# Altium footprint library Mezeq_Passives.PcbLib: 20 footprints (part 1 of 2)
Each footprint in its own frame and in the unit in brackets; x right, y up, seen from the top. Pads: shape width x height; smd on the part's side, far side on the other; paste and mask are expansions set on the pad; w line width, h text height; cw(c..) or ccw(c..) is an arc to the next point about the centre after c.
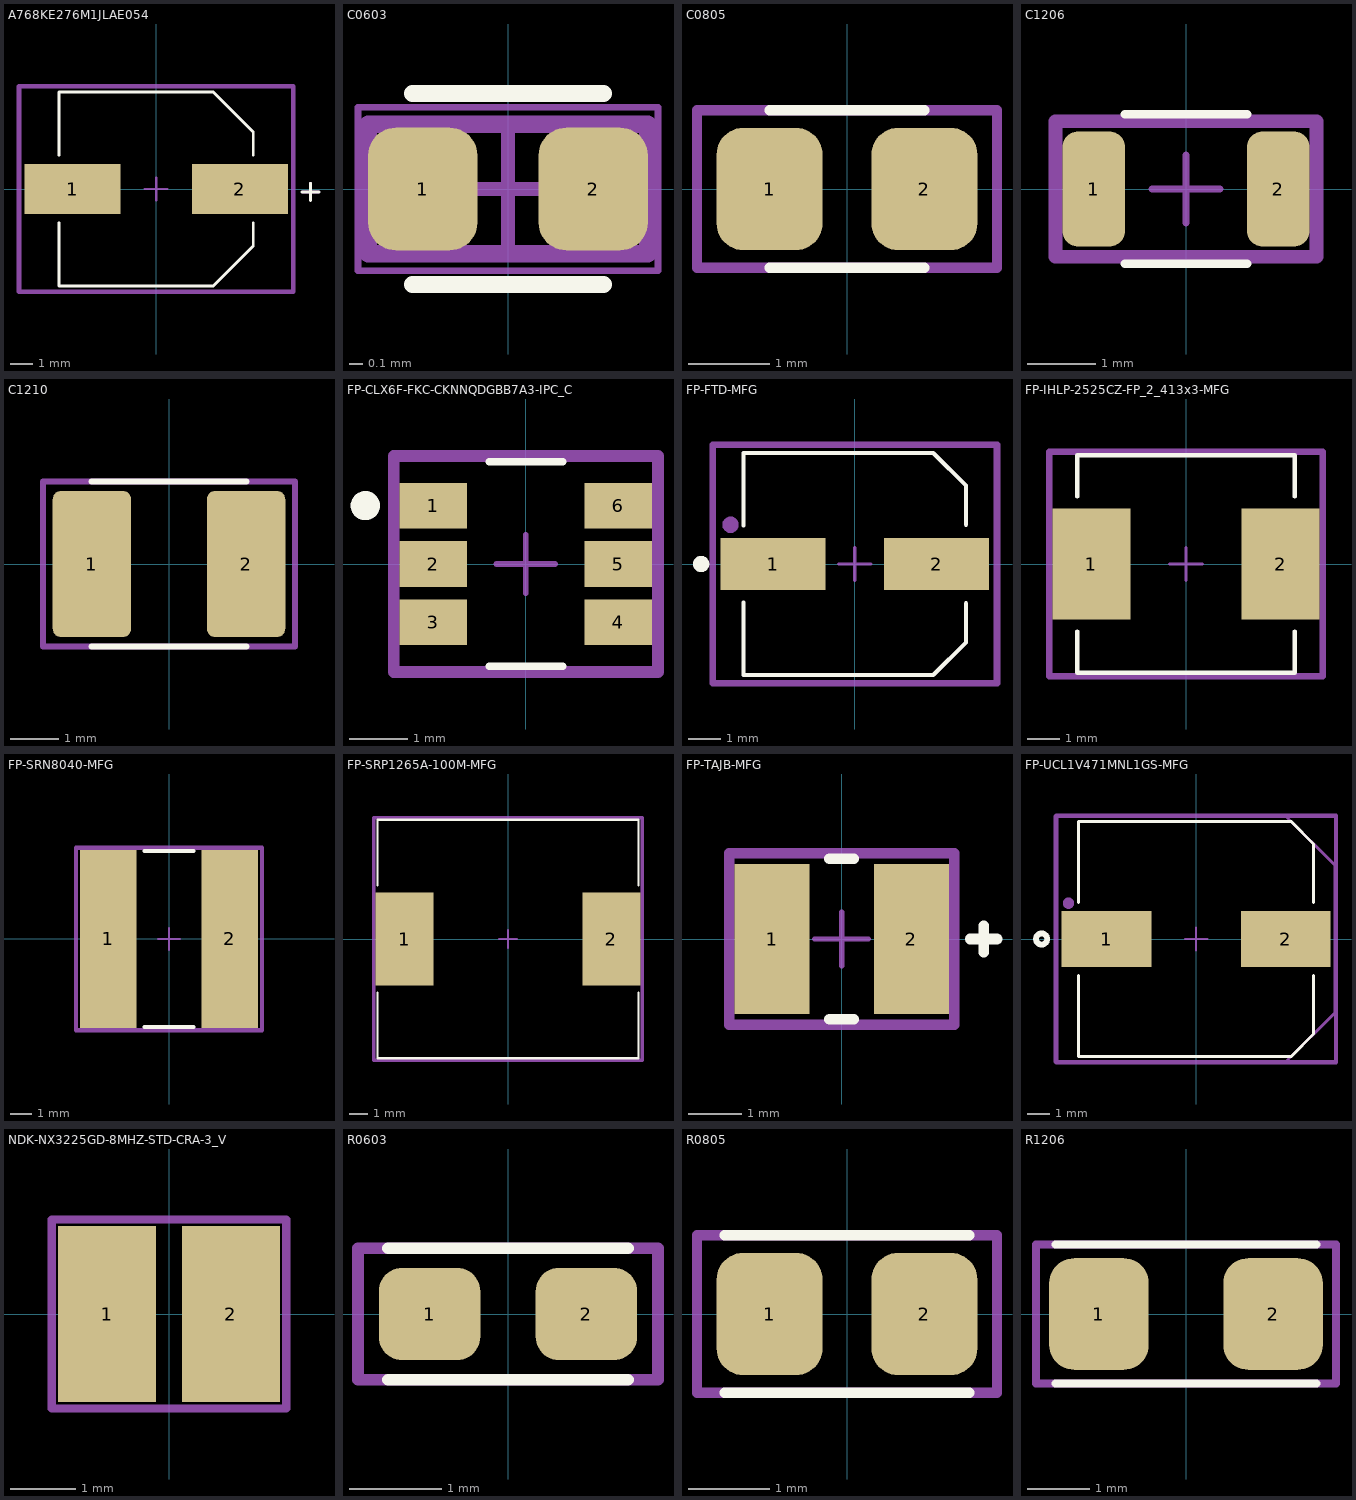
[diagram p0: the footprints below, top view; thin cyan lines are the x and y axes]

## A768KE276M1JLAE054 [mm] "Radial, Can - SMD  0.315\" Dia (8.00mm) 0.327\" L x 0.327\" W (8.30mm x 8.30mm)"
height 7
pads (2):
  rect 4.2x2.2 smd: 1(-3.65,0) 2(3.665,0)
Top Overlay:
  lines w0.127: -4.25,-1.475 -4.25,-4.25 2.5,-4.25 4.25,-2.5 4.25,-1.475 ; -4.25,1.475 -4.25,4.25 2.5,4.25 4.25,2.5 4.25,1.475 ; 6.375,-0.125 6.75,-0.125 7.125,-0.125 ; 6.75,-0.5 6.75,0.25
Top Assembly:
  lines w0.127: 6.375,-0.125 7.125,-0.125 ; 6.75,-0.5 6.75,0.25 ; -6,-4.5 6,-4.5 6,4.5 -6,4.5 -6,-4.5
  text ".Designator" at -4.998,-0.333 h1
Top Courtyard:
  lines w0.2: -6,-4.5 6,-4.5 6,4.5 -6,4.5 -6,-4.5
Top Component Center:
  lines w0.1: -0.5,0 0.5,0 ; 0,-0.5 0,0.5
3D body "Cap_A768KE276M1JLAE054_SMT_CAP_8MM3_8MM3.STEP": height 7, standoff 0, extent -4.6,-4.25 4.6,4.25

## C0603 [mm] "Chip Capacitor, 2-Leads, Body 1.60x0.80mm"
height 0.87
pads (2):
  rrect50% 0.8x0.9 smd: 1(-0.625,0) 2(0.625,0)
Top Overlay:
  lines w0.127: -0.7,-0.7 0.7,-0.7 ; -0.7,0.7 0.7,0.7
Top Assembly:
  lines w0.127: -1.025,-0.475 1.025,-0.475 1.025,0.475 -1.025,0.475 -1.025,-0.475
  text ".Designator" at -2.499,-0.167 h0.5
Top Courtyard:
  lines w0.05: -1.1,-0.6 1.1,-0.6 1.1,0.6 -1.1,0.6 -1.1,-0.6
  lines w0.1: -0.475,0 0.475,0 ; 0,-0.475 0,0.475
3D body: height 0.87, standoff 0, extent 0.525,-0.475 0.875,0.475
3D body: height 0.87, standoff 0, extent -0.875,-0.475 -0.525,0.475
3D body: height 0.87, standoff 0, extent -0.525,-0.475 0.525,0.475

## C0805 [mm] "Ceramic Chip Capacitor; Body 2 x 1.2 mm (LxW typ)"
height 0.6
pads (2):
  rrect50% 1.3x1.5 smd: 1(-0.95,0) 2(0.95,0)
Top Overlay:
  lines w0.127: -0.95,-0.965 0.95,-0.965 ; -0.95,0.965 0.95,0.965
Top Assembly:
  lines w0.127: -1.84,-0.965 1.84,-0.965 1.84,0.965 -1.84,0.965 -1.84,-0.965
  text ".Designator" at -4.063,-0.271 h0.81
3D body "CAP0805.stp": height 0.78, standoff 0, extent -1,-0.625 1,0.625

## C1206 [mm]
pads (2):
  rrect50% 0.925x1.7 smd: 1(-1.362,0) 2(1.362,0)
Top Overlay:
  lines w0.127: -0.9,-1.1 0.9,-1.1 ; -0.9,1.1 0.9,1.1
Top Assembly:
  lines w0.127: -1.925,-1 -1.925,1 1.925,1 1.925,-1 -1.925,-1
  text ".Designator" at -4.998,-0.333 h1
Top Courtyard:
  lines w0.2: -1.925,-1 -1.925,1 1.925,1 1.925,-1 -1.925,-1
Top Component Center:
  lines w0.1: -0.5,0 0.5,0 ; 0,-0.5 0,0.5
3D body "Cap_Samsung_CL31B106KBHNNNE_eec.STEP": height 1.8, standoff 0, extent -1.6,-0.8 1.6,0.8

## C1210 [mm] "Ceramic Chip Capacitor; Body 3.2 x 2.5 mm (LxW typ)"
height 0.6
pads (2):
  rrect20% 1.62x3.01 smd: 1(-1.59,0) 2(1.59,0)
Top Overlay:
  lines w0.127: -1.6,-1.7 1.6,-1.7 ; -1.6,1.7 1.6,1.7
Top Assembly:
  lines w0.127: -2.6,-1.7 -2.6,1.7 2.6,1.7 2.6,-1.7 -2.6,-1.7
  text ".Designator" at -4.063,-0.271 h0.81
3D body "c1210c106k3pactu.stp": height 2.1, standoff 0, extent -1.7,-1.346 1.7,1.354

## FP-CLX6F-FKC-CKNNQDGBB7A3-IPC_C [mm]
pads (6):
  rect 1.16x0.78 smd paste+0 mask+0: 1(-1.585,1) 2(-1.585,0) 3(-1.585,-1) 4(1.585,-1) 5(1.585,0) 6(1.585,1)
Top Overlay:
  circle w0.25: c-2.75,1 r0.125
  lines w0.127: -0.63,-1.75 0.63,-1.75 ; -0.63,1.75 0.63,1.75
Top Assembly:
  circle w0.127: c-1.585,1 r0.121
  lines w0.2: -2.265,-1.85 2.265,-1.85 2.265,1.85 -2.265,1.85 -2.265,-1.85
  text ".Designator" at -4.998,-0.333 h1
Top Courtyard:
  lines w0.2: -2.265,-1.85 2.265,-1.85 2.265,1.85 -2.265,1.85 -2.265,-1.85
Top Component Center:
  lines w0.1: -0.5,0 0.5,0 ; 0,-0.5 0,0.5
3D body "Diode_Cree_CLX6F-FKC-CKNNQDGBB7A363_eec.STEP": height 0.25, standoff 0, extent -2.265,-1.85 2.265,1.85

## FP-FTD-MFG [mm]
pads (2):
  rect 3.2x1.6 smd: 1(-2.5,0) 2(2.5,0)
Top Overlay:
  circle w0.25: c-4.7,0 r0.125
  lines w0.127: -3.4,-1.175 -3.4,-3.4 2.4,-3.4 3.4,-2.4 3.4,-1.2 ; -3.4,1.175 -3.4,3.4 2.4,3.4 3.4,2.4 3.4,1.2
Top Assembly:
  circle w0.25: c-3.8,1.2 r0.125
  lines w0.127: -4.35,-3.65 4.35,-3.65 4.35,3.65 -4.35,3.65 -4.35,-3.65
  text ".Designator" at -4.998,-0.333 h1
Top Courtyard:
  lines w0.2: -4.35,-3.65 4.35,-3.65 4.35,3.65 -4.35,3.65 -4.35,-3.65
Top Component Center:
  lines w0.1: -0.5,0 0.5,0 ; 0,-0.5 0,0.5
3D body "Cap_Panasonic_EEEFT1V101AP_eec.STEP": height 6.1, standoff 0, extent -3.9,-3.3 3.9,3.3

## FP-IHLP-2525CZ-FP_2_413x3-MFG [mil]
pads (2):
  rect 95x135 smd: 1(-115,0) 2(115,0)
Top Overlay:
  lines w5: -132.36,-82.26 -132.36,-132.36 132.36,-132.36 132.36,-82.26 ; -132.36,82.26 -132.36,132.36 132.36,132.36 132.36,82.26
Top Assembly:
  lines w5: -166.44,-136.3 -166.44,136.3 166.44,136.3 166.44,-136.3 -166.44,-136.3
  text ".Designator" at -393.57,-26.24 h78.74
Top Courtyard:
  lines w7.87: -166.44,-136.3 -166.44,136.3 166.44,136.3 166.44,-136.3 -166.44,-136.3
Top Component Center:
  lines w3.94: -19.68,0 19.68,0 ; 0,-19.68 0,19.68
3D body "Ind_Vishay_IHLP2525CZER1R5M5A_eec.STEP": height 118.15, standoff 0, extent -135.04,-127.36 135.04,127.36

## FP-SRN8040-MFG [mm]
pads (2):
  rect 2.6x8.2 smd paste+0 mask+0: 1(-2.8,0) 2(2.8,0)
Top Overlay:
  lines w0.2: -1.125,-4.05 1.125,-4.05 ; -1.125,4.05 1.125,4.05
Top Assembly:
  lines w0.127: -4.275,-4.2 -4.275,4.2 4.275,4.2 4.275,-4.2 -4.275,-4.2
  text ".Designator" at -4.998,-0.333 h1
Top Courtyard:
  lines w0.2: -4.275,-4.2 -4.275,4.2 4.275,4.2 4.275,-4.2 -4.275,-4.2
Top Component Center:
  lines w0.1: -0.5,0 0.5,0 ; 0,-0.5 0,0.5
3D body "Ind_Bourns_Inc_SRN8040-1R0Y_eec.STEP": height 4, standoff 0, extent -4.075,-3.95 4.075,3.95

## FP-SRP1265A-100M-MFG [mm]
pads (2):
  rect 3.1x5 smd: 1(-5.55,0) 2(5.55,0)
Top Overlay:
  lines w0.127: -7,-2.875 -7,-6.4 7,-6.4 7,-2.875 ; -7,2.875 -7,6.4 7,6.4 7,2.875
Top Assembly:
  lines w0.127: -7.2,-6.5 -7.2,6.5 7.2,6.5 7.2,-6.5 -7.2,-6.5
  text ".Designator" at -9.997,-0.666 h2
Top Courtyard:
  lines w0.2: -7.2,-6.5 -7.2,6.5 7.2,6.5 7.2,-6.5 -7.2,-6.5
Top Component Center:
  lines w0.1: -0.5,0 0.5,0 ; 0,-0.5 0,0.5
3D body "Ind_Bourns_SRP1265A-100M_eec.STEP": height 6.5, standoff 0, extent -6.75,-6.25 6.75,6.25

## FP-TAJB-MFG [mm]
pads (2):
  rect 1.4x2.8 smd paste+0 mask+0: 1(-1.3,0) 2(1.3,0)
Top Overlay:
  lines w0.2: -0.225,-1.5 0.225,-1.5 ; -0.225,1.5 0.225,1.5 ; 2.4,0 2.9,0 ; 2.65,-0.25 2.65,0.25
Top Assembly:
  lines w0.127: 2.4,0 2.9,0 ; 2.65,-0.25 2.65,0.25 ; -2.1,-1.6 -2.1,1.6 2.1,1.6 2.1,-1.6 -2.1,-1.6
  text ".Designator" at -4.998,-0.333 h1
Top Courtyard:
  lines w0.2: -2.1,-1.6 -2.1,1.6 2.1,1.6 2.1,-1.6 -2.1,-1.6
Top Component Center:
  lines w0.1: -0.5,0 0.5,0 ; 0,-0.5 0,0.5
3D body "Cap_AVX_TAJB335M035RNJ_eec.STEP": height 0.25, standoff 0, extent -2.1,-1.6 2.1,1.6

## FP-UCL1V471MNL1GS-MFG [mm]
height 0.6
pads (2):
  rect 4x2.5 smd: 1(-4,0) 2(4,0)
Top Overlay:
  circle w0.25: c-6.9,0 r0.25
  lines w0.127: -5.25,-1.625 -5.25,-5.25 4.25,-5.25 5.25,-4.25 5.25,-1.625 ; -5.25,1.625 -5.25,5.25 4.25,5.25 5.25,4.25 5.25,1.625
Top Assembly:
  circle w0.25: c-5.7,1.6 r0.125
  lines w0.127: -6.306,-5.498 4.002,-5.498 6.194,-3.306 6.194,3.306 3.998,5.502 -6.306,5.502 -6.306,-5.498
  text ".Designator" at -9.997,-0.666 h2
Top Courtyard:
  lines w0.2: -6.25,-5.5 6.25,-5.5 6.25,5.5 -6.25,5.5 -6.25,-5.5
Top Component Center:
  lines w0.1: -0.5,0 0.5,0 ; 0,-0.5 0,0.5
3D body "Cap_Nichicon_UCL1V471MNL1GS_eec.STEP": height 14.3, standoff 0, extent -5.45,-5.15 5.45,5.15

## NDK-NX3225GD-8MHZ-STD-CRA-3_V [mm] "SMD, 2-Leads, Body 3.2x2.5mm"
height 1
pads (2):
  rect 1.5x2.7 smd: 1(-0.95,0) 2(0.95,0)
Top Assembly:
  lines w0.127: -1.8,-1.45 -1.8,1.45 1.8,1.45 1.8,-1.45 -1.8,-1.45
  text ".Designator" at -4.998,-0.333 h1
3D body: height 1, standoff 0, extent -1.599,-1.249 1.599,1.249

## R0603 [mm] "Chip Resistor; Body 1.6 x 0.9 mm (LxW typ)"
height 0.45
pads (2):
  rrect50% 1.1x1 smd: 1(-0.85,0) 2(0.85,0)
Top Overlay:
  lines w0.127: -1.3,-0.711 1.3,-0.711 ; -1.3,0.711 1.3,0.711
Top Assembly:
  lines w0.127: -1.626,-0.711 1.626,-0.711 1.626,0.711 -1.626,0.711 -1.626,-0.711
  text ".Designator" at -2.539,-0.169 h0.51
3D body "RES0603.STEP": height 0.46, standoff 0.01, extent -0.775,-0.43 0.775,0.43

## R0805 [mm] "Chip Resistor; Body 2 x 1.2 mm (LxW typ)"
height 0.6
pads (2):
  rrect50% 1.3x1.5 smd: 1(-0.95,0) 2(0.95,0)
Top Overlay:
  lines w0.127: -1.5,-0.965 1.5,-0.965 ; -1.5,0.965 1.5,0.965
Top Assembly:
  lines w0.127: -1.84,-0.965 1.84,-0.965 1.84,0.965 -1.84,0.965 -1.84,-0.965
  text ".Designator" at -4.063,-0.271 h0.81
3D body "RES0805.STEP": height 0.46, standoff 0.01, extent -1,-0.63 1,0.63

## R1206 [mm] "Chip Resistor; Body 3.1 x 1.6 mm (LxW typ)"
height 0.6
pads (2):
  rrect50% 1.6x1.8 smd: 1(-1.4,0) 2(1.4,0)
Top Overlay:
  lines w0.127: -2.1,-1.118 2.1,-1.118 ; -2.1,1.118 2.1,1.118
Top Assembly:
  lines w0.127: -2.413,-1.118 2.413,-1.118 2.413,1.118 -2.413,1.118 -2.413,-1.118
  text ".Designator" at -4.063,-0.271 h0.81
3D body "R_1206_3216Metric.step": height 0.55, standoff 0, extent -1.6,-0.8 1.6,0.8